# Altium integrated library NSC Interface.IntLib: 1288 symbols (part 10 of 45)
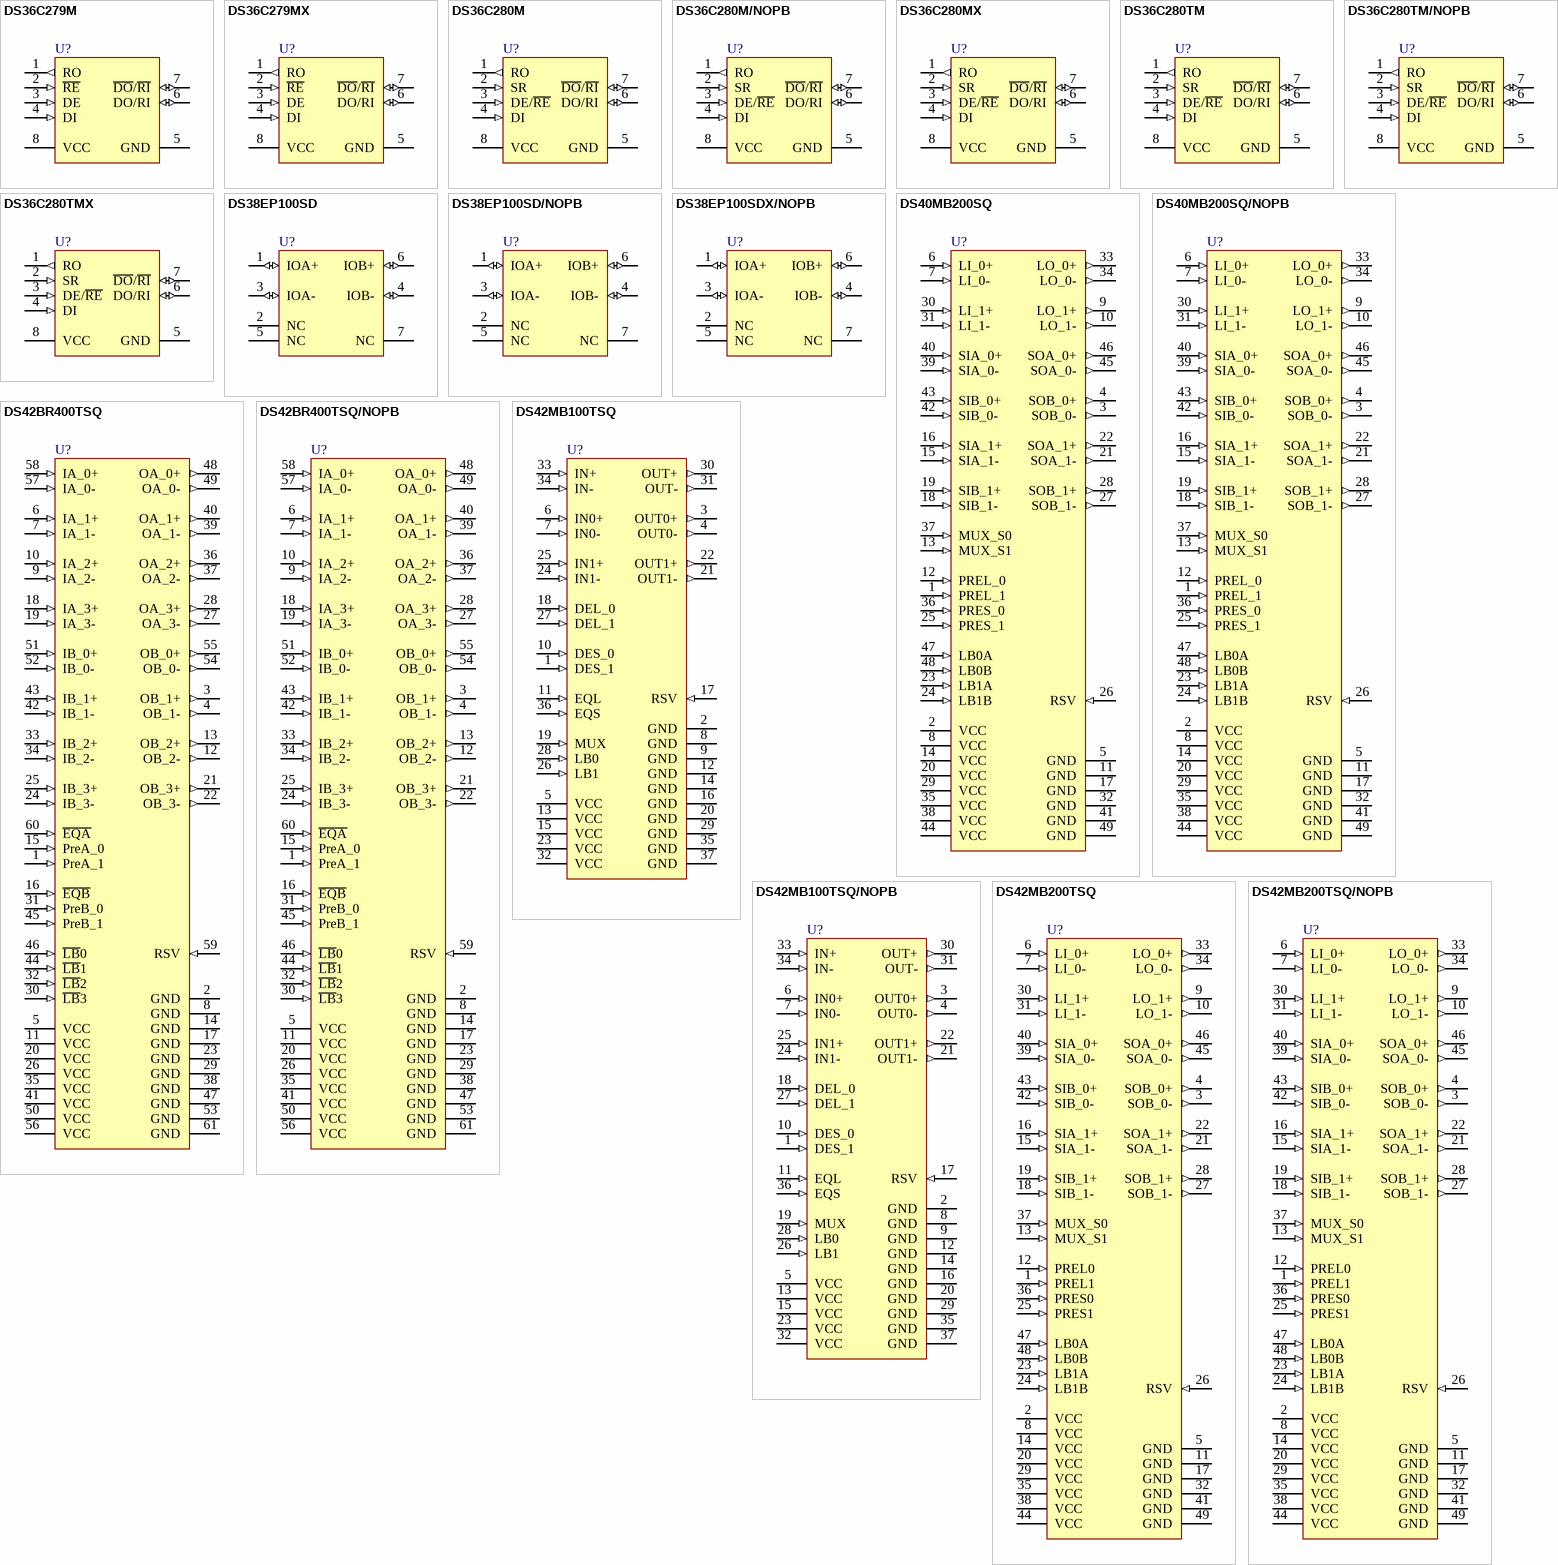
[diagram p121: symbols DS36C279M to DS42MB200TSQ/NOPB]

## DS36C279MX
designator U?
Low Power TIA/EIA-485 Transceiver with Sleep Mode, 8-pin Narrow SOIC; PartNumber: DS36C279MX; Manufacturer: National Semiconductor; PackageTopMarking: NSZXTT*36C27*9M; PowerWise: N; CompType: Interface IC; Published: 1-Mar-2010; DatasheetVersion: Jul-2000; PackageVersion: revM, May-2009; PackageReference: M08A; Publisher: Altium Limited; PackageDescription: SOIC Narrow, 4.9 x 3.9 x 1.45mm, 8 Lead, 1.27mm Pitch; RoHS: N; PinCount: 8; Code_JEDEC: MS-012-AA; Code_IPC: SOIC127P600-8; ComponentLink1Description: DS36C279 Datasheet; ComponentLink1URL: http://www.national.com/ds/DS/DS36C279.pdf; ComponentLink2Description: DS36C279 Web Page; ComponentLink2URL: http://www.national.com/pf/DS/DS36C279.html; ComponentLink3Description: M08A Package Page; ComponentLink3URL: http://www.national.com/packaging/folders/m08a.html
footprint M08A_N (SOIC, 8-Leads, Body 4.9x3.9mm, Pitch 1.27mm, IPC Medium Density)
footprint M08A_L (SOIC, 8-Leads, Body 4.9x3.9mm, Pitch 1.27mm, IPC High Density)
footprint M08A_M (SOIC, 8-Leads, Body 4.9x3.9mm, Pitch 1.27mm, IPC Low Density)
pins: 1 RO (out), 2 ~{RE} (in), 3 DE (in), 4 DI (in), 5 GND (power), 6 DO/RI (io), 7 ~{DO}/~{RI} (io), 8 VCC (power)

## DS36C280M
designator U?
Slew Rate Controlled CMOS TIA/EIA-485 Transceiver, 8-pin Narrow SOIC; PartNumber: DS36C280M; Manufacturer: National Semiconductor; PackageTopMarking: NSZXTT*36C28*0M; PowerWise: N; CompType: Interface IC; Published: 4-Dec-2008; DatasheetVersion: Jul-2000; PackageVersion: revM, May-2009; PackageReference: M08A; Publisher: Altium Limited; PackageDescription: SOIC Narrow, 4.9 x 3.9 x 1.45mm, 8 Lead, 1.27mm Pitch; RoHS: N; PinCount: 8; Code_JEDEC: MS-012-AA; Code_IPC: SOIC127P600-8; ComponentLink1Description: DS36C280 Datasheet; ComponentLink1URL: http://www.national.com/ds/DS/DS36C280.pdf; ComponentLink2Description: DS36C280 Web Page; ComponentLink2URL: http://www.national.com/pf/DS/DS36C280.html; ComponentLink3Description: M08A Package Page; ComponentLink3URL: http://www.national.com/packaging/folders/m08a.html
footprint M08A_N (SOIC, 8-Leads, Body 4.9x3.9mm, Pitch 1.27mm, IPC Medium Density)
footprint M08A_L (SOIC, 8-Leads, Body 4.9x3.9mm, Pitch 1.27mm, IPC High Density)
footprint M08A_M (SOIC, 8-Leads, Body 4.9x3.9mm, Pitch 1.27mm, IPC Low Density)
pins: 1 RO (out), 2 SR (in), 3 DE/~{RE} (in), 4 DI (in), 5 GND (power), 6 DO/RI (io), 7 ~{DO}/~{RI} (io), 8 VCC (power)

## DS36C280M/NOPB
designator U?
Slew Rate Controlled CMOS TIA/EIA-485 Transceiver, 8-pin Narrow SOIC, Pb-Free; PartNumber: DS36C280M/NOPB; Manufacturer: National Semiconductor; PackageTopMarking: NSZXTT*36C28*0M; PowerWise: N; CompType: Interface IC; Published: 1-Mar-2010; DatasheetVersion: Jul-2000; PackageVersion: revM, May-2009; PackageReference: M08A; Publisher: Altium Limited; PackageDescription: SOIC Narrow, 4.9 x 3.9 x 1.45mm, 8 Lead, 1.27mm Pitch; Supplier 1: Digi-Key; Supplier Part Number 1: DS36C280M-ND; RoHS: Y; PinCount: 8; Code_JEDEC: MS-012-AA; Code_IPC: SOIC127P600-8; ComponentLink1Description: DS36C280 Datasheet; ComponentLink1URL: http://www.national.com/ds/DS/DS36C280.pdf; ComponentLink2Description: DS36C280 Web Page; ComponentLink2URL: http://www.national.com/pf/DS/DS36C280.html; ComponentLink3Description: M08A Package Page; ComponentLink3URL: http://www.national.com/packaging/folders/m08a.html
footprint M08A_N (SOIC, 8-Leads, Body 4.9x3.9mm, Pitch 1.27mm, IPC Medium Density)
footprint M08A_L (SOIC, 8-Leads, Body 4.9x3.9mm, Pitch 1.27mm, IPC High Density)
footprint M08A_M (SOIC, 8-Leads, Body 4.9x3.9mm, Pitch 1.27mm, IPC Low Density)
pins: 1 RO (out), 2 SR (in), 3 DE/~{RE} (in), 4 DI (in), 5 GND (power), 6 DO/RI (io), 7 ~{DO}/~{RI} (io), 8 VCC (power)

## DS36C280MX
designator U?
Slew Rate Controlled CMOS TIA/EIA-485 Transceiver, 8-pin Narrow SOIC; PartNumber: DS36C280MX; Manufacturer: National Semiconductor; PackageTopMarking: NSZXTT*36C28*0M; PowerWise: N; CompType: Interface IC; Published: 1-Mar-2010; DatasheetVersion: Jul-2000; PackageVersion: revM, May-2009; PackageReference: M08A; Publisher: Altium Limited; PackageDescription: SOIC Narrow, 4.9 x 3.9 x 1.45mm, 8 Lead, 1.27mm Pitch; RoHS: N; PinCount: 8; Code_JEDEC: MS-012-AA; Code_IPC: SOIC127P600-8; ComponentLink1Description: DS36C280 Datasheet; ComponentLink1URL: http://www.national.com/ds/DS/DS36C280.pdf; ComponentLink2Description: DS36C280 Web Page; ComponentLink2URL: http://www.national.com/pf/DS/DS36C280.html; ComponentLink3Description: M08A Package Page; ComponentLink3URL: http://www.national.com/packaging/folders/m08a.html
footprint M08A_N (SOIC, 8-Leads, Body 4.9x3.9mm, Pitch 1.27mm, IPC Medium Density)
footprint M08A_L (SOIC, 8-Leads, Body 4.9x3.9mm, Pitch 1.27mm, IPC High Density)
footprint M08A_M (SOIC, 8-Leads, Body 4.9x3.9mm, Pitch 1.27mm, IPC Low Density)
pins: 1 RO (out), 2 SR (in), 3 DE/~{RE} (in), 4 DI (in), 5 GND (power), 6 DO/RI (io), 7 ~{DO}/~{RI} (io), 8 VCC (power)

## DS36C280TM
designator U?
Slew Rate Controlled CMOS EIA-RS-485 Transceiver, 8-pin Narrow SOIC; PartNumber: DS36C280TM; Manufacturer: National Semiconductor; PackageTopMarking: NSZXTT*36C28*0TM; PowerWise: N; CompType: Interface IC; Published: 4-Dec-2008; DatasheetVersion: Jul-2000; PackageVersion: revM, May-2009; PackageReference: M08A; Publisher: Altium Limited; PackageDescription: SOIC Narrow, 4.9 x 3.9 x 1.45mm, 8 Lead, 1.27mm Pitch; Supplier 1: Farnell; Supplier Part Number 1: 1215198; RoHS: N; PinCount: 8; Code_JEDEC: MS-012-AA; Code_IPC: SOIC127P600-8; ComponentLink1Description: DS36C280 Datasheet; ComponentLink1URL: http://www.national.com/ds/DS/DS36C280.pdf; ComponentLink2Description: DS36C280 Web Page; ComponentLink2URL: http://www.national.com/pf/DS/DS36C280.html; ComponentLink3Description: M08A Package Page; ComponentLink3URL: http://www.national.com/packaging/folders/m08a.html
footprint M08A_N (SOIC, 8-Leads, Body 4.9x3.9mm, Pitch 1.27mm, IPC Medium Density)
footprint M08A_L (SOIC, 8-Leads, Body 4.9x3.9mm, Pitch 1.27mm, IPC High Density)
footprint M08A_M (SOIC, 8-Leads, Body 4.9x3.9mm, Pitch 1.27mm, IPC Low Density)
pins: 1 RO (out), 2 SR (in), 3 DE/~{RE} (in), 4 DI (in), 5 GND (power), 6 DO/RI (io), 7 ~{DO}/~{RI} (io), 8 VCC (power)

## DS36C280TM/NOPB
designator U?
Slew Rate Controlled CMOS TIA/EIA-485 Transceiver, 8-pin Narrow SOIC, Pb-Free; PartNumber: DS36C280TM/NOPB; Manufacturer: National Semiconductor; PackageTopMarking: NSZXTT*36C28*0TM; PowerWise: N; CompType: Interface IC; Published: 1-Mar-2010; DatasheetVersion: Jul-2000; PackageVersion: revM, May-2009; PackageReference: M08A; Publisher: Altium Limited; PackageDescription: SOIC Narrow, 4.9 x 3.9 x 1.45mm, 8 Lead, 1.27mm Pitch; Supplier 1: Digi-Key; Supplier Part Number 1: DS36C280TM/NOPB-ND; RoHS: Y; PinCount: 8; Code_JEDEC: MS-012-AA; Code_IPC: SOIC127P600-8; ComponentLink1Description: DS36C280 Datasheet; ComponentLink1URL: http://www.national.com/ds/DS/DS36C280.pdf; ComponentLink2Description: DS36C280 Web Page; ComponentLink2URL: http://www.national.com/pf/DS/DS36C280.html; ComponentLink3Description: M08A Package Page; ComponentLink3URL: http://www.national.com/packaging/folders/m08a.html
footprint M08A_N (SOIC, 8-Leads, Body 4.9x3.9mm, Pitch 1.27mm, IPC Medium Density)
footprint M08A_L (SOIC, 8-Leads, Body 4.9x3.9mm, Pitch 1.27mm, IPC High Density)
footprint M08A_M (SOIC, 8-Leads, Body 4.9x3.9mm, Pitch 1.27mm, IPC Low Density)
pins: 1 RO (out), 2 SR (in), 3 DE/~{RE} (in), 4 DI (in), 5 GND (power), 6 DO/RI (io), 7 ~{DO}/~{RI} (io), 8 VCC (power)

## DS36C280TMX
designator U?
Slew Rate Controlled CMOS TIA/EIA-485 Transceiver, 8-pin Narrow SOIC; PartNumber: DS36C280TMX; Manufacturer: National Semiconductor; PackageTopMarking: NSZXTT*36C28*0TM; PowerWise: N; CompType: Interface IC; Published: 1-Mar-2010; DatasheetVersion: Jul-2000; PackageVersion: revM, May-2009; PackageReference: M08A; Publisher: Altium Limited; PackageDescription: SOIC Narrow, 4.9 x 3.9 x 1.45mm, 8 Lead, 1.27mm Pitch; RoHS: N; PinCount: 8; Code_JEDEC: MS-012-AA; Code_IPC: SOIC127P600-8; ComponentLink1Description: DS36C280 Datasheet; ComponentLink1URL: http://www.national.com/ds/DS/DS36C280.pdf; ComponentLink2Description: DS36C280 Web Page; ComponentLink2URL: http://www.national.com/pf/DS/DS36C280.html; ComponentLink3Description: M08A Package Page; ComponentLink3URL: http://www.national.com/packaging/folders/m08a.html
footprint M08A_N (SOIC, 8-Leads, Body 4.9x3.9mm, Pitch 1.27mm, IPC Medium Density)
footprint M08A_L (SOIC, 8-Leads, Body 4.9x3.9mm, Pitch 1.27mm, IPC High Density)
footprint M08A_M (SOIC, 8-Leads, Body 4.9x3.9mm, Pitch 1.27mm, IPC Low Density)
pins: 1 RO (out), 2 SR (in), 3 DE/~{RE} (in), 4 DI (in), 5 GND (power), 6 DO/RI (io), 7 ~{DO}/~{RI} (io), 8 VCC (power)

## DS38EP100SD
designator U?
1 to 5 Gbps, Power-Saver Equalizer for Backplanes and Cables, 6-pin LLP; PartNumber: DS38EP100SD; Manufacturer: National Semiconductor; PackageTopMarking: XTT*38S; PowerWise: Y; CompType: Interface IC; Published: 4-Dec-2008; DatasheetVersion: Jul-2007; PackageVersion: revA, Nov-2003; PackageReference: SDB06A; Publisher: Altium Limited; PackageDescription: LLP, Plastic, Dual, 2.2 x 2.5 x 0.8mm Body, 6 Lead, 0.65mm Pitch, No Pullback; RoHS: Y; PinCount: 6; ComponentLink1Description: DS38EP100 Datasheet; ComponentLink1URL: http://www.national.com/ds/DS/DS38EP100.pdf; ComponentLink2Description: DS38EP100 Web Page; ComponentLink2URL: http://www.national.com/pf/DS/DS38EP100.html; ComponentLink3Description: SDB06A Package Page; ComponentLink3URL: http://www.national.com/packaging/folders/sdb06a.html
footprint SDB06A (SON, 6-Leads, Body 2.2x2.5mm, Pitch 0.65mm, NSC Recommended (SC-70 Land))
pins: 1 IOA+ (io), 2 NC, 3 IOA- (io), 4 IOB- (io), 5 NC, 6 IOB+ (io), 7 NC

## DS38EP100SD/NOPB
designator U?
1 to 5 Gbps, Power-Saver Equalizer for Backplanes and Cables, 6-pin LLP, Pb-Free; PartNumber: DS38EP100SD/NOPB; Manufacturer: National Semiconductor; PackageTopMarking: XTT*38S; PowerWise: Y; CompType: Interface IC; Published: 1-Mar-2010; DatasheetVersion: Jul-2007; PackageVersion: revA, Nov-2003; PackageReference: SDB06A; Publisher: Altium Limited; PackageDescription: LLP, Plastic, Dual, 2.2 x 2.5 x 0.8mm Body, 6 Lead, 0.65mm Pitch, No Pullback; Supplier 1: Digi-Key; Supplier Part Number 1: DS38EP100SDTR-ND; Supplier 2: Digi-Key; Supplier Part Number 2: DS38EP100SDCT-ND; Supplier 3: Digi-Key; Supplier Part Number 3: DS38EP100SDDKR-ND; RoHS: Y; PinCount: 6; ComponentLink1Description: DS38EP100 Datasheet; ComponentLink1URL: http://www.national.com/ds/DS/DS38EP100.pdf; ComponentLink2Description: DS38EP100 Web Page; ComponentLink2URL: http://www.national.com/pf/DS/DS38EP100.html; ComponentLink3Description: SDB06A Package Page; ComponentLink3URL: http://www.national.com/packaging/folders/sdb06a.html
footprint SDB06A (SON, 6-Leads, Body 2.2x2.5mm, Pitch 0.65mm, NSC Recommended (SC-70 Land))
pins: 1 IOA+ (io), 2 NC, 3 IOA- (io), 4 IOB- (io), 5 NC, 6 IOB+ (io), 7 NC

## DS38EP100SDX/NOPB
designator U?
1 to 5 Gbps, Power-Saver Equalizer for Backplanes and Cables, 6-pin LLP, Pb-Free; PartNumber: DS38EP100SDX/NOPB; Manufacturer: National Semiconductor; PackageTopMarking: XTT*38S; PowerWise: Y; CompType: Interface IC; Published: 1-Mar-2010; DatasheetVersion: Jul-2007; PackageVersion: revA, Nov-2003; PackageReference: SDB06A; Publisher: Altium Limited; PackageDescription: LLP, Plastic, Dual, 2.2 x 2.5 x 0.8mm Body, 6 Lead, 0.65mm Pitch, No Pullback; Supplier 1: Digi-Key; Supplier Part Number 1: DS38EP100SDX-ND; RoHS: Y; PinCount: 6; ComponentLink1Description: DS38EP100 Datasheet; ComponentLink1URL: http://www.national.com/ds/DS/DS38EP100.pdf; ComponentLink2Description: DS38EP100 Web Page; ComponentLink2URL: http://www.national.com/pf/DS/DS38EP100.html; ComponentLink3Description: SDB06A Package Page; ComponentLink3URL: http://www.national.com/packaging/folders/sdb06a.html
footprint SDB06A (SON, 6-Leads, Body 2.2x2.5mm, Pitch 0.65mm, NSC Recommended (SC-70 Land))
pins: 1 IOA+ (io), 2 NC, 3 IOA- (io), 4 IOB- (io), 5 NC, 6 IOB+ (io), 7 NC

## DS40MB200SQ
designator U?
Dual 4.0 Gbps 2:1/1:2 CML Mux/Buffer with Transmit Pre-Emphasis and Receive Equalization, 48-pin LLP; PartNumber: DS40MB200SQ; Manufacturer: National Semiconductor; PackageTopMarking: NS*UZXYTTE#*40MB200; PowerWise: N; CompType: Interface IC; Published: 4-Dec-2008; DatasheetVersion: Feb-2009; PackageVersion: revA, Jul-2004; PackageReference: SQA48D; Publisher: Altium Limited; PackageDescription: LLP, Quad, 7 x 7 x 0.8mm, 48 Lead, 0.5mm Pitch, 4.1 x 4.1 Exposed Pad; RoHS: N; PinCount: 48; ComponentLink1Description: DS40MB200 Datasheet; ComponentLink1URL: http://www.national.com/ds/DS/DS40MB200.pdf; ComponentLink2Description: DS40MB200 Web Page; ComponentLink2URL: http://www.national.com/pf/DS/DS40MB200.html; ComponentLink3Description: SQA48D Package Page; ComponentLink3URL: http://www.national.com/packaging/folders/sqa48d.html
footprint SQA48D (QFN, 48-Leads, Body 7x7mm, Pitch 0.5mm, NSC Recommended)
pins: 1 PREL_1 (in), 2 VCC (power), 3 SOB_0- (out), 4 SOB_0+ (out), 5 GND (power), 6 LI_0+ (in), 7 LI_0- (in), 8 VCC (power), 9 LO_1+ (out), 10 LO_1- (out), 11 GND (power), 12 PREL_0 (in), 13 MUX_S1 (in), 14 VCC (power), 15 SIA_1- (in), 16 SIA_1+ (in), 17 GND (power), 18 SIB_1- (in), 19 SIB_1+ (in), 20 VCC (power), 21 SOA_1- (out), 22 SOA_1+ (out), 23 LB1A (in), 24 LB1B (in), 25 PRES_1 (in), 26 RSV (in), 27 SOB_1- (out), 28 SOB_1+ (out), 29 VCC (power), 30 LI_1+ (in), 31 LI_1- (in), 32 GND (power), 33 LO_0+ (out), 34 LO_0- (out), 35 VCC (power), 36 PRES_0 (in), 37 MUX_S0 (in), 38 VCC (power), 39 SIA_0- (in), 40 SIA_0+ (in), 41 GND (power), 42 SIB_0- (in), 43 SIB_0+ (in), 44 VCC (power), 45 SOA_0- (out), 46 SOA_0+ (out), 47 LB0A (in), 48 LB0B (in), 49 GND (power)

## DS40MB200SQ/NOPB
designator U?
Dual 4.0 Gbps 2:1/1:2 CML Mux/Buffer with Transmit Pre-Emphasis and Receive Equalization, 48-pin LLP, Pb-Free; PartNumber: DS40MB200SQ/NOPB; Manufacturer: National Semiconductor; PackageTopMarking: NS*UZXYTTE#*40MB200; PowerWise: N; CompType: Interface IC; Published: 1-Mar-2010; DatasheetVersion: Feb-2009; PackageVersion: revA, Jul-2004; PackageReference: SQA48D; Publisher: Altium Limited; PackageDescription: LLP, Quad, 7 x 7 x 0.8mm, 48 Lead, 0.5mm Pitch, 4.1 x 4.1 Exposed Pad; Supplier 1: Digi-Key; Supplier Part Number 1: DS40MB200SQTR-ND; Supplier 2: Digi-Key; Supplier Part Number 2: DS40MB200SQCT-ND; Supplier 3: Digi-Key; Supplier Part Number 3: DS40MB200SQDKR-ND; RoHS: Y; PinCount: 48; ComponentLink1Description: DS40MB200 Datasheet; ComponentLink1URL: http://www.national.com/ds/DS/DS40MB200.pdf; ComponentLink2Description: DS40MB200 Web Page; ComponentLink2URL: http://www.national.com/pf/DS/DS40MB200.html; ComponentLink3Description: SQA48D Package Page; ComponentLink3URL: http://www.national.com/packaging/folders/sqa48d.html
footprint SQA48D (QFN, 48-Leads, Body 7x7mm, Pitch 0.5mm, NSC Recommended)
pins: 1 PREL_1 (in), 2 VCC (power), 3 SOB_0- (out), 4 SOB_0+ (out), 5 GND (power), 6 LI_0+ (in), 7 LI_0- (in), 8 VCC (power), 9 LO_1+ (out), 10 LO_1- (out), 11 GND (power), 12 PREL_0 (in), 13 MUX_S1 (in), 14 VCC (power), 15 SIA_1- (in), 16 SIA_1+ (in), 17 GND (power), 18 SIB_1- (in), 19 SIB_1+ (in), 20 VCC (power), 21 SOA_1- (out), 22 SOA_1+ (out), 23 LB1A (in), 24 LB1B (in), 25 PRES_1 (in), 26 RSV (in), 27 SOB_1- (out), 28 SOB_1+ (out), 29 VCC (power), 30 LI_1+ (in), 31 LI_1- (in), 32 GND (power), 33 LO_0+ (out), 34 LO_0- (out), 35 VCC (power), 36 PRES_0 (in), 37 MUX_S0 (in), 38 VCC (power), 39 SIA_0- (in), 40 SIA_0+ (in), 41 GND (power), 42 SIB_0- (in), 43 SIB_0+ (in), 44 VCC (power), 45 SOA_0- (out), 46 SOA_0+ (out), 47 LB0A (in), 48 LB0B (in), 49 GND (power)

## DS42BR400TSQ
designator U?
Quad 4.25 Gbps CML Transceiver with Transmit De-Emphasis and Receive Equalization, 60-pin LLP; PartNumber: DS42BR400TSQ; Manufacturer: National Semiconductor; PackageTopMarking: NS*UZXYTT*DS42BR400*TSQ; PowerWise: Y; CompType: Interface IC; Published: 4-Dec-2008; DatasheetVersion: Mar-2009; PackageVersion: revA, Jun-2005; PackageReference: SQA60A; Publisher: Altium Limited; PackageDescription: LLP, Quad, 9 x 9 x 0.8mm, 60 Lead, 0.5mm Pitch, No Pullback; RoHS: N; PinCount: 60; ComponentLink1Description: DS42BR400 Datasheet; ComponentLink1URL: http://www.national.com/ds/DS/DS42BR400.pdf; ComponentLink2Description: DS42BR400 Web Page; ComponentLink2URL: http://www.national.com/pf/DS/DS42BR400.html; ComponentLink3Description: SQA60A Package Page; ComponentLink3URL: http://www.national.com/packaging/folders/sqa60a.html
footprint SQA60A (QFN, 60-Leads, Body 9x9mm, Pitch 0.5mm, NSC Recommended)
pins: 1 PreA_1 (in), 2 GND (power), 3 OB_1+ (out), 4 OB_1- (out), 5 VCC (power), 6 IA_1+ (in), 7 IA_1- (in), 8 GND (power), 9 IA_2- (in), 10 IA_2+ (in), 11 VCC (power), 12 OB_2- (out), 13 OB_2+ (out), 14 GND (power), 15 PreA_0 (in), 16 ~{EQB} (in), 17 GND (power), 18 IA_3+ (in), 19 IA_3- (in), 20 VCC (power), 21 OB_3+ (out), 22 OB_3- (out), 23 GND (power), 24 IB_3- (in), 25 IB_3+ (in), 26 VCC (power), 27 OA_3- (out), 28 OA_3+ (out), 29 GND (power), 30 ~{LB}3 (in), 31 PreB_0 (in), 32 ~{LB}2 (in), 33 IB_2+ (in), 34 IB_2- (in), 35 VCC (power), 36 OA_2+ (out), 37 OA_2- (out), 38 GND (power), 39 OA_1- (out), 40 OA_1+ (out), 41 VCC (power), 42 IB_1- (in), 43 IB_1+ (in), 44 ~{LB}1 (in), 45 PreB_1 (in), 46 ~{LB}0 (in), 47 GND (power), 48 OA_0+ (out), 49 OA_0- (out), 50 VCC (power), 51 IB_0+ (in), 52 IB_0- (in), 53 GND (power), 54 OB_0- (out), 55 OB_0+ (out), 56 VCC (power), 57 IA_0- (in), 58 IA_0+ (in), 59 RSV (in), 60 ~{EQA} (in), 61 GND (power)

## DS42BR400TSQ/NOPB
designator U?
Quad 4.25 Gbps CML Transceiver with Transmit De-Emphasis and Receive Equalization, 60-pin LLP, Pb-Free; PartNumber: DS42BR400TSQ/NOPB; Manufacturer: National Semiconductor; PackageTopMarking: NS*UZXYTTE#*DS42BR400*TSQ; PowerWise: Y; CompType: Interface IC; Published: 1-Mar-2010; DatasheetVersion: Mar-2009; PackageVersion: revA, Jun-2005; PackageReference: SQA60A; Publisher: Altium Limited; PackageDescription: LLP, Quad, 9 x 9 x 0.8mm, 60 Lead, 0.5mm Pitch, No Pullback; Supplier 1: Digi-Key; Supplier Part Number 1: DS42BR400TSQTR-ND; Supplier 2: Digi-Key; Supplier Part Number 2: DS42BR400TSQCT-ND; Supplier 3: Digi-Key; Supplier Part Number 3: DS42BR400TSQDKR-ND; RoHS: Y; PinCount: 60; ComponentLink1Description: DS42BR400 Datasheet; ComponentLink1URL: http://www.national.com/ds/DS/DS42BR400.pdf; ComponentLink2Description: DS42BR400 Web Page; ComponentLink2URL: http://www.national.com/pf/DS/DS42BR400.html; ComponentLink3Description: SQA60A Package Page; ComponentLink3URL: http://www.national.com/packaging/folders/sqa60a.html
footprint SQA60A (QFN, 60-Leads, Body 9x9mm, Pitch 0.5mm, NSC Recommended)
pins: 1 PreA_1 (in), 2 GND (power), 3 OB_1+ (out), 4 OB_1- (out), 5 VCC (power), 6 IA_1+ (in), 7 IA_1- (in), 8 GND (power), 9 IA_2- (in), 10 IA_2+ (in), 11 VCC (power), 12 OB_2- (out), 13 OB_2+ (out), 14 GND (power), 15 PreA_0 (in), 16 ~{EQB} (in), 17 GND (power), 18 IA_3+ (in), 19 IA_3- (in), 20 VCC (power), 21 OB_3+ (out), 22 OB_3- (out), 23 GND (power), 24 IB_3- (in), 25 IB_3+ (in), 26 VCC (power), 27 OA_3- (out), 28 OA_3+ (out), 29 GND (power), 30 ~{LB}3 (in), 31 PreB_0 (in), 32 ~{LB}2 (in), 33 IB_2+ (in), 34 IB_2- (in), 35 VCC (power), 36 OA_2+ (out), 37 OA_2- (out), 38 GND (power), 39 OA_1- (out), 40 OA_1+ (out), 41 VCC (power), 42 IB_1- (in), 43 IB_1+ (in), 44 ~{LB}1 (in), 45 PreB_1 (in), 46 ~{LB}0 (in), 47 GND (power), 48 OA_0+ (out), 49 OA_0- (out), 50 VCC (power), 51 IB_0+ (in), 52 IB_0- (in), 53 GND (power), 54 OB_0- (out), 55 OB_0+ (out), 56 VCC (power), 57 IA_0- (in), 58 IA_0+ (in), 59 RSV (in), 60 ~{EQA} (in), 61 GND (power)

## DS42MB100TSQ
designator U?
4.25 Gbps 2:1/1:2 CML Mux/Buffer with Transmit De-Emphasis and Receive Equalization, 36-pin LLP; PartNumber: DS42MB100TSQ; Manufacturer: National Semiconductor; PackageTopMarking: NS*UZXYTT*42MB100; PowerWise: N; CompType: Interface IC; Published: 4-Dec-2008; DatasheetVersion: Mar-2009; PackageVersion: revA, Jun-2003; PackageReference: SQA36A; Publisher: Altium Limited; PackageDescription: LLP, Plastic, Quad, 6 x 6 x 0.8mm Body, 36 Lead, 0.5mm Pitch, No Pullback; RoHS: Y; PinCount: 36; ComponentLink1Description: DS42MB100 Datasheet; ComponentLink1URL: http://www.national.com/ds/DS/DS42MB100.pdf; ComponentLink2Description: DS42MB100 Web Page; ComponentLink2URL: http://www.national.com/pf/DS/DS42MB100.html; ComponentLink3Description: SQA36A Package Page; ComponentLink3URL: http://www.national.com/packaging/folders/sqa36a.html
footprint SQA36A (QFN, 36-Leads, Body 6x6mm, Pitch 0.5mm, NSC Recommended)
pins: 1 DES_1 (in), 2 GND (power), 3 OUT0+ (out), 4 OUT0- (out), 5 VCC (power), 6 IN0+ (in), 7 IN0- (in), 8 GND (power), 9 GND (power), 10 DES_0 (in), 11 EQL (in), 12 GND (power), 13 VCC (power), 14 GND (power), 15 VCC (power), 16 GND (power), 17 RSV (in), 18 DEL_0 (in), 19 MUX (in), 20 GND (power), 21 OUT1- (out), 22 OUT1+ (out), 23 VCC (power), 24 IN1- (in), 25 IN1+ (in), 26 LB1 (in), 27 DEL_1 (in), 28 LB0 (in), 29 GND (power), 30 OUT+ (out), 31 OUT- (out), 32 VCC (power), 33 IN+ (in), 34 IN- (in), 35 GND (power), 36 EQS (in), 37 GND (power)

## DS42MB100TSQ/NOPB
designator U?
4.25 Gbps 2:1/1:2 CML Mux/Buffer with Transmit Pre-Emphasis and Receive Equalization, 36-pin LLP, Pb-Free; PartNumber: DS42MB100TSQ/NOPB; Manufacturer: National Semiconductor; PackageTopMarking: NS*UZXYTTE#*42MB100; PowerWise: N; CompType: Interface IC; Published: 1-Mar-2010; DatasheetVersion: Mar-2009; PackageVersion: revA, Jun-2003; PackageReference: SQA36A; Publisher: Altium Limited; PackageDescription: LLP, Plastic, Quad, 6 x 6 x 0.8mm Body, 36 Lead, 0.5mm Pitch, No Pullback; Supplier 1: Digi-Key; Supplier Part Number 1: DS42MB100TSQTR-ND; Supplier 2: Digi-Key; Supplier Part Number 2: DS42MB100TSQCT-ND; Supplier 3: Digi-Key; Supplier Part Number 3: DS42MB100TSQDKR-ND; RoHS: Y; PinCount: 36; ComponentLink1Description: DS42MB100 Datasheet; ComponentLink1URL: http://www.national.com/ds/DS/DS42MB100.pdf; ComponentLink2Description: DS42MB100 Web Page; ComponentLink2URL: http://www.national.com/pf/DS/DS42MB100.html; ComponentLink3Description: SQA36A Package Page; ComponentLink3URL: http://www.national.com/packaging/folders/sqa36a.html
footprint SQA36A (QFN, 36-Leads, Body 6x6mm, Pitch 0.5mm, NSC Recommended)
pins: 1 DES_1 (in), 2 GND (power), 3 OUT0+ (out), 4 OUT0- (out), 5 VCC (power), 6 IN0+ (in), 7 IN0- (in), 8 GND (power), 9 GND (power), 10 DES_0 (in), 11 EQL (in), 12 GND (power), 13 VCC (power), 14 GND (power), 15 VCC (power), 16 GND (power), 17 RSV (in), 18 DEL_0 (in), 19 MUX (in), 20 GND (power), 21 OUT1- (out), 22 OUT1+ (out), 23 VCC (power), 24 IN1- (in), 25 IN1+ (in), 26 LB1 (in), 27 DEL_1 (in), 28 LB0 (in), 29 GND (power), 30 OUT+ (out), 31 OUT- (out), 32 VCC (power), 33 IN+ (in), 34 IN- (in), 35 GND (power), 36 EQS (in), 37 GND (power)

## DS42MB200TSQ
designator U?
Dual 4.25 Gbps 2:1/1:2 CML Mux/Buffer with Transmit Pre-Emphasis and Receive Equalization, 48-pin LLP; PartNumber: DS42MB200TSQ; Manufacturer: National Semiconductor; PackageTopMarking: NS*UZXYTT*42MB200; PowerWise: N; CompType: Interface IC; Published: 4-Dec-2008; DatasheetVersion: Mar-2009; PackageVersion: revA, Jul-2004; PackageReference: SQA48D; Publisher: Altium Limited; PackageDescription: LLP, Quad, 7 x 7 x 0.8mm, 48 Lead, 0.5mm Pitch, 4.1 x 4.1 Exposed Pad; RoHS: Y; PinCount: 48; ComponentLink1Description: DS42MB200 Datasheet; ComponentLink1URL: http://www.national.com/ds/DS/DS42MB200.pdf; ComponentLink2Description: DS42MB200 Web Page; ComponentLink2URL: http://www.national.com/pf/DS/DS42MB200.html; ComponentLink3Description: SQA48D Package Page; ComponentLink3URL: http://www.national.com/packaging/folders/sqa48d.html
footprint SQA48D (QFN, 48-Leads, Body 7x7mm, Pitch 0.5mm, NSC Recommended)
pins: 1 PREL1 (in), 2 VCC (power), 3 SOB_0- (out), 4 SOB_0+ (out), 5 GND (power), 6 LI_0+ (in), 7 LI_0- (in), 8 VCC (power), 9 LO_1+ (out), 10 LO_1- (out), 11 GND (power), 12 PREL0 (in), 13 MUX_S1 (in), 14 VCC (power), 15 SIA_1- (in), 16 SIA_1+ (in), 17 GND (power), 18 SIB_1- (in), 19 SIB_1+ (in), 20 VCC (power), 21 SOA_1- (out), 22 SOA_1+ (out), 23 LB1A (in), 24 LB1B (in), 25 PRES1 (in), 26 RSV (in), 27 SOB_1- (out), 28 SOB_1+ (out), 29 VCC (power), 30 LI_1+ (in), 31 LI_1- (in), 32 GND (power), 33 LO_0+ (out), 34 LO_0- (out), 35 VCC (power), 36 PRES0 (in), 37 MUX_S0 (in), 38 VCC (power), 39 SIA_0- (in), 40 SIA_0+ (in), 41 GND (power), 42 SIB_0- (in), 43 SIB_0+ (in), 44 VCC (power), 45 SOA_0- (out), 46 SOA_0+ (out), 47 LB0A (in), 48 LB0B (in), 49 GND (power)

## DS42MB200TSQ/NOPB
designator U?
Dual 4.25 Gbps 2:1/1:2 CML Mux/Buffer with Transmit Pre-Emphasis and Receive Equalization, 48-pin LLP, Pb-Free; PartNumber: DS42MB200TSQ/NOPB; Manufacturer: National Semiconductor; PackageTopMarking: NS*UZXYTTE#*42MB200; PowerWise: N; CompType: Interface IC; Published: 1-Mar-2010; DatasheetVersion: Mar-2009; PackageVersion: revA, Jul-2004; PackageReference: SQA48D; Publisher: Altium Limited; PackageDescription: LLP, Quad, 7 x 7 x 0.8mm, 48 Lead, 0.5mm Pitch, 4.1 x 4.1 Exposed Pad; Supplier 1: Digi-Key; Supplier Part Number 1: DS42MB200TSQTR-ND; Supplier 2: Digi-Key; Supplier Part Number 2: DS42MB200TSQCT-ND; Supplier 3: Digi-Key; Supplier Part Number 3: DS42MB200TSQDKR-ND; RoHS: Y; PinCount: 48; ComponentLink1Description: DS42MB200 Datasheet; ComponentLink1URL: http://www.national.com/ds/DS/DS42MB200.pdf; ComponentLink2Description: DS42MB200 Web Page; ComponentLink2URL: http://www.national.com/pf/DS/DS42MB200.html; ComponentLink3Description: SQA48D Package Page; ComponentLink3URL: http://www.national.com/packaging/folders/sqa48d.html
footprint SQA48D (QFN, 48-Leads, Body 7x7mm, Pitch 0.5mm, NSC Recommended)
pins: 1 PREL1 (in), 2 VCC (power), 3 SOB_0- (out), 4 SOB_0+ (out), 5 GND (power), 6 LI_0+ (in), 7 LI_0- (in), 8 VCC (power), 9 LO_1+ (out), 10 LO_1- (out), 11 GND (power), 12 PREL0 (in), 13 MUX_S1 (in), 14 VCC (power), 15 SIA_1- (in), 16 SIA_1+ (in), 17 GND (power), 18 SIB_1- (in), 19 SIB_1+ (in), 20 VCC (power), 21 SOA_1- (out), 22 SOA_1+ (out), 23 LB1A (in), 24 LB1B (in), 25 PRES1 (in), 26 RSV (in), 27 SOB_1- (out), 28 SOB_1+ (out), 29 VCC (power), 30 LI_1+ (in), 31 LI_1- (in), 32 GND (power), 33 LO_0+ (out), 34 LO_0- (out), 35 VCC (power), 36 PRES0 (in), 37 MUX_S0 (in), 38 VCC (power), 39 SIA_0- (in), 40 SIA_0+ (in), 41 GND (power), 42 SIB_0- (in), 43 SIB_0+ (in), 44 VCC (power), 45 SOA_0- (out), 46 SOA_0+ (out), 47 LB0A (in), 48 LB0B (in), 49 GND (power)

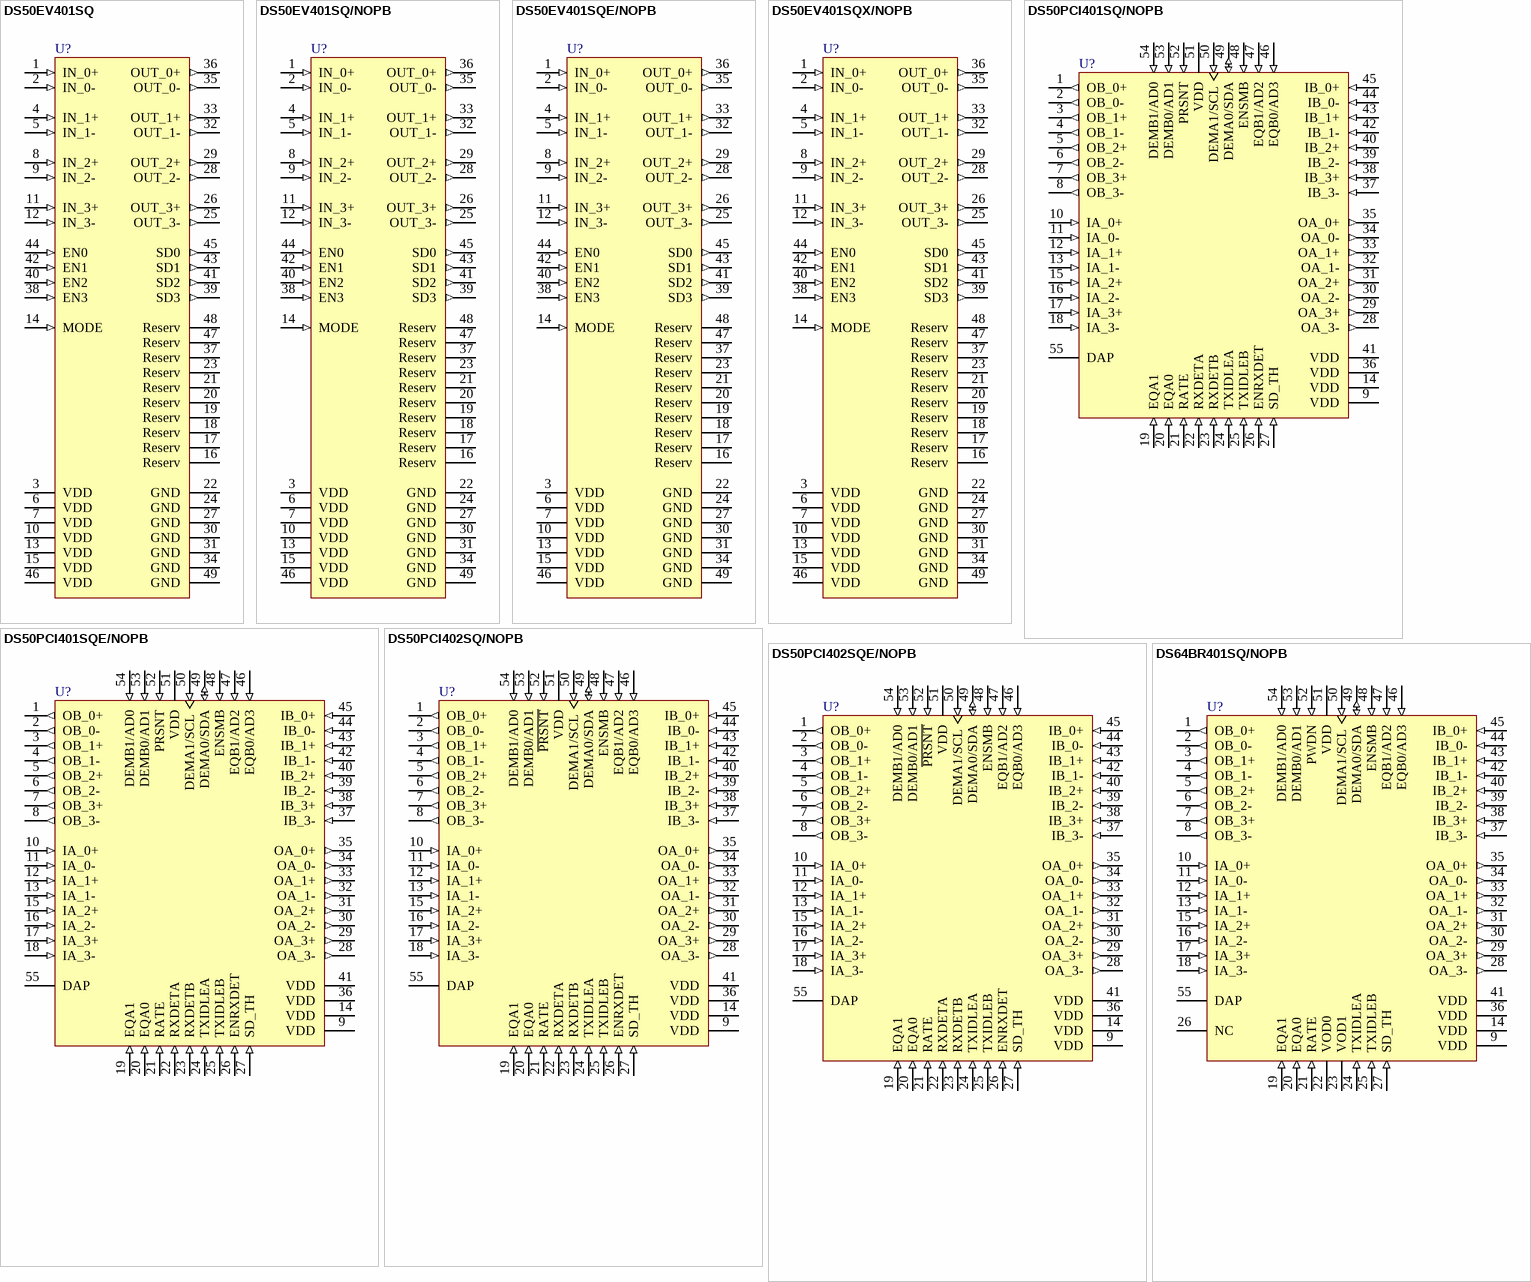
[diagram p24: symbols DS50EV401SQ to DS64BR401SQ/NOPB]

## DS50EV401SQ
designator U?
2.5 Gbps / 5.0 Gbps / 8.0 Gbps Quad PCI Express Cable and Backplane Equalizer, 48-pin LLP; PartNumber: DS50EV401SQ; Manufacturer: National Semiconductor; PackageTopMarking: NS*UZXYTT*DS50EV401; PowerWise: N; CompType: Interface IC; Published: 4-Dec-2008; DatasheetVersion: Jul-2008; PackageVersion: revB, May-2009; PackageReference: SQA48A; Publisher: Altium Limited; PackageDescription: LLP, Plastic, Quad, 7 x 7 x 0.8mm Body, 48 Lead, 0.5mm Pitch, No Pullback; RoHS: Y; PinCount: 48; Code_JEDEC: MO-220-WKKD-2; ComponentLink1Description: DS50EV401 Datasheet; ComponentLink1URL: http://www.national.com/ds/DS/DS50EV401.pdf; ComponentLink2Description: DS50EV401 Web Page; ComponentLink2URL: http://www.national.com/pf/DS/DS50EV401.html; ComponentLink3Description: SQA48A Package Page; ComponentLink3URL: http://www.national.com/packaging/folders/sqa48a.html
footprint SQA48A (QFN, 48-Leads, Body 7x7mm, Pitch 0.5mm, NSC Recommended)
pins: 1 IN_0+ (in), 2 IN_0- (in), 3 VDD (power), 4 IN_1+ (in), 5 IN_1- (in), 6 VDD (power), 7 VDD (power), 8 IN_2+ (in), 9 IN_2- (in), 10 VDD (power), 11 IN_3+ (in), 12 IN_3- (in), 13 VDD (power), 14 MODE (in), 15 VDD (power), 16 Reserv, 17 Reserv, 18 Reserv, 19 Reserv, 20 Reserv, 21 Reserv, 22 GND (power), 23 Reserv, 24 GND (power), 25 OUT_3- (out), 26 OUT_3+ (out), 27 GND (power), 28 OUT_2- (out), 29 OUT_2+ (out), 30 GND (power), 31 GND (power), 32 OUT_1- (out), 33 OUT_1+ (out), 34 GND (power), 35 OUT_0- (out), 36 OUT_0+ (out), 37 Reserv, 38 EN3 (in), 39 SD3 (out), 40 EN2 (in), 41 SD2 (out), 42 EN1 (in), 43 SD1 (out), 44 EN0 (in), 45 SD0 (out), 46 VDD (power), 47 Reserv, 48 Reserv, 49 GND (power)

## DS50EV401SQ/NOPB
designator U?
2.5 Gbps / 5.0 Gbps or 8.0 Gbps Quad PCI Express Cable and Backplane Equalizer, 48-pin LLP, Pb-Free; PartNumber: DS50EV401SQ/NOPB; Manufacturer: National Semiconductor; PackageTopMarking: NS*UZXYTTE#*DS50EV401; PowerWise: N; CompType: Interface IC; Published: 1-Mar-2010; DatasheetVersion: Jul-2008; PackageVersion: revB, May-2009; PackageReference: SQA48A; Publisher: Altium Limited; PackageDescription: LLP, Plastic, Quad, 7 x 7 x 0.8mm Body, 48 Lead, 0.5mm Pitch, No Pullback; Supplier 1: Digi-Key; Supplier Part Number 1: DS50EV401SQ-ND; RoHS: Y; PinCount: 48; Code_JEDEC: MO-220-WKKD-2; ComponentLink1Description: DS50EV401 Datasheet; ComponentLink1URL: http://www.national.com/ds/DS/DS50EV401.pdf; ComponentLink2Description: DS50EV401 Web Page; ComponentLink2URL: http://www.national.com/pf/DS/DS50EV401.html; ComponentLink3Description: SQA48A Package Page; ComponentLink3URL: http://www.national.com/packaging/folders/sqa48a.html
footprint SQA48A (QFN, 48-Leads, Body 7x7mm, Pitch 0.5mm, NSC Recommended)
pins: 1 IN_0+ (in), 2 IN_0- (in), 3 VDD (power), 4 IN_1+ (in), 5 IN_1- (in), 6 VDD (power), 7 VDD (power), 8 IN_2+ (in), 9 IN_2- (in), 10 VDD (power), 11 IN_3+ (in), 12 IN_3- (in), 13 VDD (power), 14 MODE (in), 15 VDD (power), 16 Reserv, 17 Reserv, 18 Reserv, 19 Reserv, 20 Reserv, 21 Reserv, 22 GND (power), 23 Reserv, 24 GND (power), 25 OUT_3- (out), 26 OUT_3+ (out), 27 GND (power), 28 OUT_2- (out), 29 OUT_2+ (out), 30 GND (power), 31 GND (power), 32 OUT_1- (out), 33 OUT_1+ (out), 34 GND (power), 35 OUT_0- (out), 36 OUT_0+ (out), 37 Reserv, 38 EN3 (in), 39 SD3 (out), 40 EN2 (in), 41 SD2 (out), 42 EN1 (in), 43 SD1 (out), 44 EN0 (in), 45 SD0 (out), 46 VDD (power), 47 Reserv, 48 Reserv, 49 GND (power)

## DS50EV401SQE/NOPB
designator U?
2.5 Gbps / 5.0 Gbps or 8.0 Gbps Quad PCI Express Cable and Backplane Equalizer, 48-pin LLP, Pb-Free; PartNumber: DS50EV401SQE/NOPB; Manufacturer: National Semiconductor; PackageTopMarking: NS*UZXYTTE#*DS50EV401; PowerWise: N; CompType: Interface IC; Published: 1-Mar-2010; DatasheetVersion: Jul-2008; PackageVersion: revB, May-2009; PackageReference: SQA48A; Publisher: Altium Limited; PackageDescription: LLP, Plastic, Quad, 7 x 7 x 0.8mm Body, 48 Lead, 0.5mm Pitch, No Pullback; Supplier 1: Digi-Key; Supplier Part Number 1: DS50EV401SQE/NOPBTR-ND; Supplier 2: Digi-Key; Supplier Part Number 2: DS50EV401SQE/NOPBCT-ND; Supplier 3: Digi-Key; Supplier Part Number 3: DS50EV401SQE/NOPBDKR-ND; RoHS: Y; PinCount: 48; Code_JEDEC: MO-220-WKKD-2; ComponentLink1Description: DS50EV401 Datasheet; ComponentLink1URL: http://www.national.com/ds/DS/DS50EV401.pdf; ComponentLink2Description: DS50EV401 Web Page; ComponentLink2URL: http://www.national.com/pf/DS/DS50EV401.html; ComponentLink3Description: SQA48A Package Page; ComponentLink3URL: http://www.national.com/packaging/folders/sqa48a.html
footprint SQA48A (QFN, 48-Leads, Body 7x7mm, Pitch 0.5mm, NSC Recommended)
pins: 1 IN_0+ (in), 2 IN_0- (in), 3 VDD (power), 4 IN_1+ (in), 5 IN_1- (in), 6 VDD (power), 7 VDD (power), 8 IN_2+ (in), 9 IN_2- (in), 10 VDD (power), 11 IN_3+ (in), 12 IN_3- (in), 13 VDD (power), 14 MODE (in), 15 VDD (power), 16 Reserv, 17 Reserv, 18 Reserv, 19 Reserv, 20 Reserv, 21 Reserv, 22 GND (power), 23 Reserv, 24 GND (power), 25 OUT_3- (out), 26 OUT_3+ (out), 27 GND (power), 28 OUT_2- (out), 29 OUT_2+ (out), 30 GND (power), 31 GND (power), 32 OUT_1- (out), 33 OUT_1+ (out), 34 GND (power), 35 OUT_0- (out), 36 OUT_0+ (out), 37 Reserv, 38 EN3 (in), 39 SD3 (out), 40 EN2 (in), 41 SD2 (out), 42 EN1 (in), 43 SD1 (out), 44 EN0 (in), 45 SD0 (out), 46 VDD (power), 47 Reserv, 48 Reserv, 49 GND (power)

## DS50EV401SQX/NOPB
designator U?
2.5 Gbps / 5.0 Gbps or 8.0 Gbps Quad PCI Express Cable and Backplane Equalizer, 48-pin LLP, Pb-Free; PartNumber: DS50EV401SQX/NOPB; Manufacturer: National Semiconductor; PackageTopMarking: NS*UZXYTTE#*DS50EV401; PowerWise: N; CompType: Interface IC; Published: 1-Mar-2010; DatasheetVersion: Jul-2008; PackageVersion: revB, May-2009; PackageReference: SQA48A; Publisher: Altium Limited; PackageDescription: LLP, Plastic, Quad, 7 x 7 x 0.8mm Body, 48 Lead, 0.5mm Pitch, No Pullback; Supplier 1: Digi-Key; Supplier Part Number 1: DS50EV401SQX-ND; RoHS: Y; PinCount: 48; Code_JEDEC: MO-220-WKKD-2; ComponentLink1Description: DS50EV401 Datasheet; ComponentLink1URL: http://www.national.com/ds/DS/DS50EV401.pdf; ComponentLink2Description: DS50EV401 Web Page; ComponentLink2URL: http://www.national.com/pf/DS/DS50EV401.html; ComponentLink3Description: SQA48A Package Page; ComponentLink3URL: http://www.national.com/packaging/folders/sqa48a.html
footprint SQA48A (QFN, 48-Leads, Body 7x7mm, Pitch 0.5mm, NSC Recommended)
pins: 1 IN_0+ (in), 2 IN_0- (in), 3 VDD (power), 4 IN_1+ (in), 5 IN_1- (in), 6 VDD (power), 7 VDD (power), 8 IN_2+ (in), 9 IN_2- (in), 10 VDD (power), 11 IN_3+ (in), 12 IN_3- (in), 13 VDD (power), 14 MODE (in), 15 VDD (power), 16 Reserv, 17 Reserv, 18 Reserv, 19 Reserv, 20 Reserv, 21 Reserv, 22 GND (power), 23 Reserv, 24 GND (power), 25 OUT_3- (out), 26 OUT_3+ (out), 27 GND (power), 28 OUT_2- (out), 29 OUT_2+ (out), 30 GND (power), 31 GND (power), 32 OUT_1- (out), 33 OUT_1+ (out), 34 GND (power), 35 OUT_0- (out), 36 OUT_0+ (out), 37 Reserv, 38 EN3 (in), 39 SD3 (out), 40 EN2 (in), 41 SD2 (out), 42 EN1 (in), 43 SD1 (out), 44 EN0 (in), 45 SD0 (out), 46 VDD (power), 47 Reserv, 48 Reserv, 49 GND (power)

## DS50PCI401SQ/NOPB
designator U?
2.5 Gbps / 5.0 Gbps 4 Lane PCI Express Transceiver with Equalization and De-Emphasis, 54-pin LLP, Pb-Free; PartNumber: DS50PCI401SQ/NOPB; Manufacturer: National Semiconductor; PackageTopMarking: NS*UZXYTTE#*DS50PCI401SQ; PowerWise: N; CompType: Interface IC; Published: 1-Mar-2010; LatestRevisionNote: RSNT pin is now active low.; DatasheetVersion: Feb-2010; PackageVersion: revB, Jun-2009; PackageReference: SQA54A; Publisher: Altium Limited; PackageDescription: LLP, Plastic, Quad, 10 x 10 x 0.8 mm Body, 54 Lead, 0.5 mm Pitch (SQA54A); Supplier 1: Digi-Key; Supplier Part Number 1: DS50PCI401SQ-ND; RoHS: Y; PinCount: 54; ComponentLink1Description: DS50PCI401 Datasheet; ComponentLink1URL: http://www.national.com/ds/DS/DS50PCI401.pdf; ComponentLink2Description: DS50PCI401 Web Page; ComponentLink2URL: http://www.national.com/pf/DS/DS50PCI401.html; ComponentLink3Description: SQA54A Package Page; ComponentLink3URL: http://www.national.com/packaging/folders/sqa54a.html
footprint SQA54A (PQFN, 54-Leads, (18x9 pads), Body 10x10mm, Pitch 0.5mm, NSC Recommended)
pins: 1 OB_0+ (out), 2 OB_0- (out), 3 OB_1+ (out), 4 OB_1- (out), 5 OB_2+ (out), 6 OB_2- (out), 7 OB_3+ (out), 8 OB_3- (out), 9 VDD (power), 10 IA_0+ (in), 11 IA_0- (in), 12 IA_1+ (in), 13 IA_1- (in), 14 VDD (power), 15 IA_2+ (in), 16 IA_2- (in), 17 IA_3+ (in), 18 IA_3- (in), 19 EQA1 (in), 20 EQA0 (in), 21 RATE (in), 22 RXDETA (in), 23 RXDETB (in), 24 TXIDLEA (in), 25 TXIDLEB (in), 26 ENRXDET (in), 27 SD_TH (in), 28 OA_3- (out), 29 OA_3+ (out), 30 OA_2- (out), 31 OA_2+ (out), 32 OA_1- (out), 33 OA_1+ (out), 34 OA_0- (out), 35 OA_0+ (out), 36 VDD (power), 37 IB_3- (in), 38 IB_3+ (in), 39 IB_2- (in), 40 IB_2+ (in), 41 VDD (power), 42 IB_1- (in), 43 IB_1+ (in), 44 IB_0- (in), 45 IB_0+ (in), 46 EQB0/AD3 (in), 47 EQB1/AD2 (in), 48 ENSMB (in), 49 DEMA0/SDA (io), 50 DEMA1/SCL (in), 51 VDD (power), 52 PRSNT (in), 53 DEMB0/AD1 (in), 54 DEMB1/AD0 (in), 55 DAP (power)

## DS50PCI401SQE/NOPB
designator U?
2.5 Gbps / 5.0 Gbps 4 Lane PCI Express Transceiver with Equalization and De-Emphasis, 54-pin LLP, Pb-Free; PartNumber: DS50PCI401SQE/NOPB; Manufacturer: National Semiconductor; PackageTopMarking: NS*UZXYTTE#*DS50PCI401SQ; PowerWise: N; CompType: Interface IC; Published: 1-Mar-2010; LatestRevisionNote: RSNT pin is now active low.; DatasheetVersion: Feb-2010; PackageVersion: revB, Jun-2009; PackageReference: SQA54A; Publisher: Altium Limited; PackageDescription: LLP, Plastic, Quad, 10 x 10 x 0.8 mm Body, 54 Lead, 0.5 mm Pitch (SQA54A); Supplier 1: Digi-Key; Supplier Part Number 1: DS50PCI401SQETR-ND; Supplier 2: Digi-Key; Supplier Part Number 2: DS50PCI401SQECT-ND; Supplier 3: Digi-Key; Supplier Part Number 3: DS50PCI401SQEDKR-ND; RoHS: Y; PinCount: 54; ComponentLink1Description: DS50PCI401 Datasheet; ComponentLink1URL: http://www.national.com/ds/DS/DS50PCI401.pdf; ComponentLink2Description: DS50PCI401 Web Page; ComponentLink2URL: http://www.national.com/pf/DS/DS50PCI401.html; ComponentLink3Description: SQA54A Package Page; ComponentLink3URL: http://www.national.com/packaging/folders/sqa54a.html
footprint SQA54A (PQFN, 54-Leads, (18x9 pads), Body 10x10mm, Pitch 0.5mm, NSC Recommended)
pins: 1 OB_0+ (out), 2 OB_0- (out), 3 OB_1+ (out), 4 OB_1- (out), 5 OB_2+ (out), 6 OB_2- (out), 7 OB_3+ (out), 8 OB_3- (out), 9 VDD (power), 10 IA_0+ (in), 11 IA_0- (in), 12 IA_1+ (in), 13 IA_1- (in), 14 VDD (power), 15 IA_2+ (in), 16 IA_2- (in), 17 IA_3+ (in), 18 IA_3- (in), 19 EQA1 (in), 20 EQA0 (in), 21 RATE (in), 22 RXDETA (in), 23 RXDETB (in), 24 TXIDLEA (in), 25 TXIDLEB (in), 26 ENRXDET (in), 27 SD_TH (in), 28 OA_3- (out), 29 OA_3+ (out), 30 OA_2- (out), 31 OA_2+ (out), 32 OA_1- (out), 33 OA_1+ (out), 34 OA_0- (out), 35 OA_0+ (out), 36 VDD (power), 37 IB_3- (in), 38 IB_3+ (in), 39 IB_2- (in), 40 IB_2+ (in), 41 VDD (power), 42 IB_1- (in), 43 IB_1+ (in), 44 IB_0- (in), 45 IB_0+ (in), 46 EQB0/AD3 (in), 47 EQB1/AD2 (in), 48 ENSMB (in), 49 DEMA0/SDA (io), 50 DEMA1/SCL (in), 51 VDD (power), 52 PRSNT (in), 53 DEMB0/AD1 (in), 54 DEMB1/AD0 (in), 55 DAP (power)

## DS50PCI402SQ/NOPB
designator U?
2.5 Gbps / 5.0 Gbps 4 Lane PCI Express Repeater with Equalization and De-Emphasis, 54 pin LLP; PartNumber: DS50PCI402SQ/NOPB; Manufacturer: National Semiconductor; PackageTopMarking: NS*UZXYTTE#*DS50PCI402SQ; PowerWise: Y; CompType: Interface IC; Published: 16-Nov-2010; DatasheetVersion: Jul-2010; PackageVersion: revB, Jun-2009; PackageReference: SQA54A; Publisher: Altium Limited; PackageDescription: LLP, Plastic, Quad, 10 x 10 x 0.8 mm Body, 54 Lead, 0.5 mm Pitch (SQA54A); Supplier 1: Digi-Key; Supplier Part Number 1: DS50PCI402SQ/NOPB-ND; RoHS: Y; PinCount: 54; ComponentLink1Description: DS50PCI402 Datasheet; ComponentLink1URL: http://www.national.com/ds/DS/DS50PCI402.pdf; ComponentLink2Description: DS50PCI402 Web Page; ComponentLink2URL: http://www.national.com/pf/DS/DS50PCI402.html; ComponentLink3Description: SQA54A Package Page; ComponentLink3URL: http://www.national.com/packaging/folders/sqa54a.html
footprint SQA54A (PQFN, 54-Leads, (18x9 pads), Body 10x10mm, Pitch 0.5mm, NSC Recommended)
pins: 1 OB_0+ (out), 2 OB_0- (out), 3 OB_1+ (out), 4 OB_1- (out), 5 OB_2+ (out), 6 OB_2- (out), 7 OB_3+ (out), 8 OB_3- (out), 9 VDD (power), 10 IA_0+ (in), 11 IA_0- (in), 12 IA_1+ (in), 13 IA_1- (in), 14 VDD (power), 15 IA_2+ (in), 16 IA_2- (in), 17 IA_3+ (in), 18 IA_3- (in), 19 EQA1 (in), 20 EQA0 (in), 21 RATE (in), 22 RXDETA (in), 23 RXDETB (in), 24 TXIDLEA (in), 25 TXIDLEB (in), 26 ENRXDET (in), 27 SD_TH (in), 28 OA_3- (out), 29 OA_3+ (out), 30 OA_2- (out), 31 OA_2+ (out), 32 OA_1- (out), 33 OA_1+ (out), 34 OA_0- (out), 35 OA_0+ (out), 36 VDD (power), 37 IB_3- (in), 38 IB_3+ (in), 39 IB_2- (in), 40 IB_2+ (in), 41 VDD (power), 42 IB_1- (in), 43 IB_1+ (in), 44 IB_0- (in), 45 IB_0+ (in), 46 EQB0/AD3 (in), 47 EQB1/AD2 (in), 48 ENSMB (in), 49 DEMA0/SDA (io), 50 DEMA1/SCL (in), 51 VDD (power), 52 ~{PRSNT} (in), 53 DEMB0/AD1 (in), 54 DEMB1/AD0 (in), 55 DAP (power)

## DS50PCI402SQE/NOPB
designator U?
2.5 Gbps / 5.0 Gbps 4 Lane PCI Express Repeater with Equalization and De-Emphasis, 54 pin LLP; PartNumber: DS50PCI402SQE/NOPB; Manufacturer: National Semiconductor; PackageTopMarking: NS*UZXYTTE#*DS50PCI402SQ; PowerWise: Y; CompType: Interface IC; Published: 16-Nov-2010; DatasheetVersion: Jul-2010; PackageVersion: revB, Jun-2009; PackageReference: SQA54A; Publisher: Altium Limited; PackageDescription: LLP, Plastic, Quad, 10 x 10 x 0.8 mm Body, 54 Lead, 0.5 mm Pitch (SQA54A); Supplier 1: Digi-Key; Supplier Part Number 1: DS50PCI402SQETR-ND; Supplier 2: Digi-Key; Supplier Part Number 2: DS50PCI402SQECT-ND; Supplier 3: Digi-Key; Supplier Part Number 3: DS50PCI402SQEDKR-ND; RoHS: Y; PinCount: 54; ComponentLink1Description: DS50PCI402 Datasheet; ComponentLink1URL: http://www.national.com/ds/DS/DS50PCI402.pdf; ComponentLink2Description: DS50PCI402 Web Page; ComponentLink2URL: http://www.national.com/pf/DS/DS50PCI402.html; ComponentLink3Description: SQA54A Package Page; ComponentLink3URL: http://www.national.com/packaging/folders/sqa54a.html
footprint SQA54A (PQFN, 54-Leads, (18x9 pads), Body 10x10mm, Pitch 0.5mm, NSC Recommended)
pins: 1 OB_0+ (out), 2 OB_0- (out), 3 OB_1+ (out), 4 OB_1- (out), 5 OB_2+ (out), 6 OB_2- (out), 7 OB_3+ (out), 8 OB_3- (out), 9 VDD (power), 10 IA_0+ (in), 11 IA_0- (in), 12 IA_1+ (in), 13 IA_1- (in), 14 VDD (power), 15 IA_2+ (in), 16 IA_2- (in), 17 IA_3+ (in), 18 IA_3- (in), 19 EQA1 (in), 20 EQA0 (in), 21 RATE (in), 22 RXDETA (in), 23 RXDETB (in), 24 TXIDLEA (in), 25 TXIDLEB (in), 26 ENRXDET (in), 27 SD_TH (in), 28 OA_3- (out), 29 OA_3+ (out), 30 OA_2- (out), 31 OA_2+ (out), 32 OA_1- (out), 33 OA_1+ (out), 34 OA_0- (out), 35 OA_0+ (out), 36 VDD (power), 37 IB_3- (in), 38 IB_3+ (in), 39 IB_2- (in), 40 IB_2+ (in), 41 VDD (power), 42 IB_1- (in), 43 IB_1+ (in), 44 IB_0- (in), 45 IB_0+ (in), 46 EQB0/AD3 (in), 47 EQB1/AD2 (in), 48 ENSMB (in), 49 DEMA0/SDA (io), 50 DEMA1/SCL (in), 51 VDD (power), 52 ~{PRSNT} (in), 53 DEMB0/AD1 (in), 54 DEMB1/AD0 (in), 55 DAP (power)

## DS64BR401SQ/NOPB
designator U?
Quad Bi-Directional Transceiver with Equalization and De-Emphasis, 54-pin LLP, Pb-Free; PartNumber: DS64BR401SQ/NOPB; Manufacturer: National Semiconductor; PackageTopMarking: NS*UZXYTTE#*DS64BR401*SQ; PowerWise: N; CompType: Interface IC; Published: 1-Mar-2010; LatestRevisionNote: RSNT pin is now active low.; DatasheetVersion: Oct-2009; PackageVersion: revB, Jun-2009; PackageReference: SQA54A; Publisher: Altium Limited; PackageDescription: LLP, Plastic, Quad, 10 x 10 x 0.8 mm Body, 54 Lead, 0.5 mm Pitch (SQA54A); Supplier 1: Digi-Key; Supplier Part Number 1: DS64BR401SQ-ND; RoHS: Y; PinCount: 54; ComponentLink1Description: DS64BR401 Datasheet; ComponentLink1URL: http://www.national.com/ds/DS/DS64BR401.pdf; ComponentLink2Description: DS64BR401 Web Page; ComponentLink2URL: http://www.national.com/pf/DS/DS64BR401.html; ComponentLink3Description: SQA54A Package Page; ComponentLink3URL: http://www.national.com/packaging/folders/sqa54a.html
footprint SQA54A (PQFN, 54-Leads, (18x9 pads), Body 10x10mm, Pitch 0.5mm, NSC Recommended)
pins: 1 OB_0+ (out), 2 OB_0- (out), 3 OB_1+ (out), 4 OB_1- (out), 5 OB_2+ (out), 6 OB_2- (out), 7 OB_3+ (out), 8 OB_3- (out), 9 VDD (power), 10 IA_0+ (in), 11 IA_0- (in), 12 IA_1+ (in), 13 IA_1- (in), 14 VDD (power), 15 IA_2+ (in), 16 IA_2- (in), 17 IA_3+ (in), 18 IA_3- (in), 19 EQA1 (in), 20 EQA0 (in), 21 RATE (in), 22 VOD0, 23 VOD1, 24 TXIDLEA (in), 25 TXIDLEB (in), 26 NC, 27 SD_TH (in), 28 OA_3- (out), 29 OA_3+ (out), 30 OA_2- (out), 31 OA_2+ (out), 32 OA_1- (out), 33 OA_1+ (out), 34 OA_0- (out), 35 OA_0+ (out), 36 VDD (power), 37 IB_3- (in), 38 IB_3+ (in), 39 IB_2- (in), 40 IB_2+ (in), 41 VDD (power), 42 IB_1- (in), 43 IB_1+ (in), 44 IB_0- (in), 45 IB_0+ (in), 46 EQB0/AD3 (in), 47 EQB1/AD2 (in), 48 ENSMB (in), 49 DEMA0/SDA (io), 50 DEMA1/SCL (in), 51 VDD (power), 52 PWDN (in), 53 DEMB0/AD1 (in), 54 DEMB1/AD0 (in), 55 DAP (power)

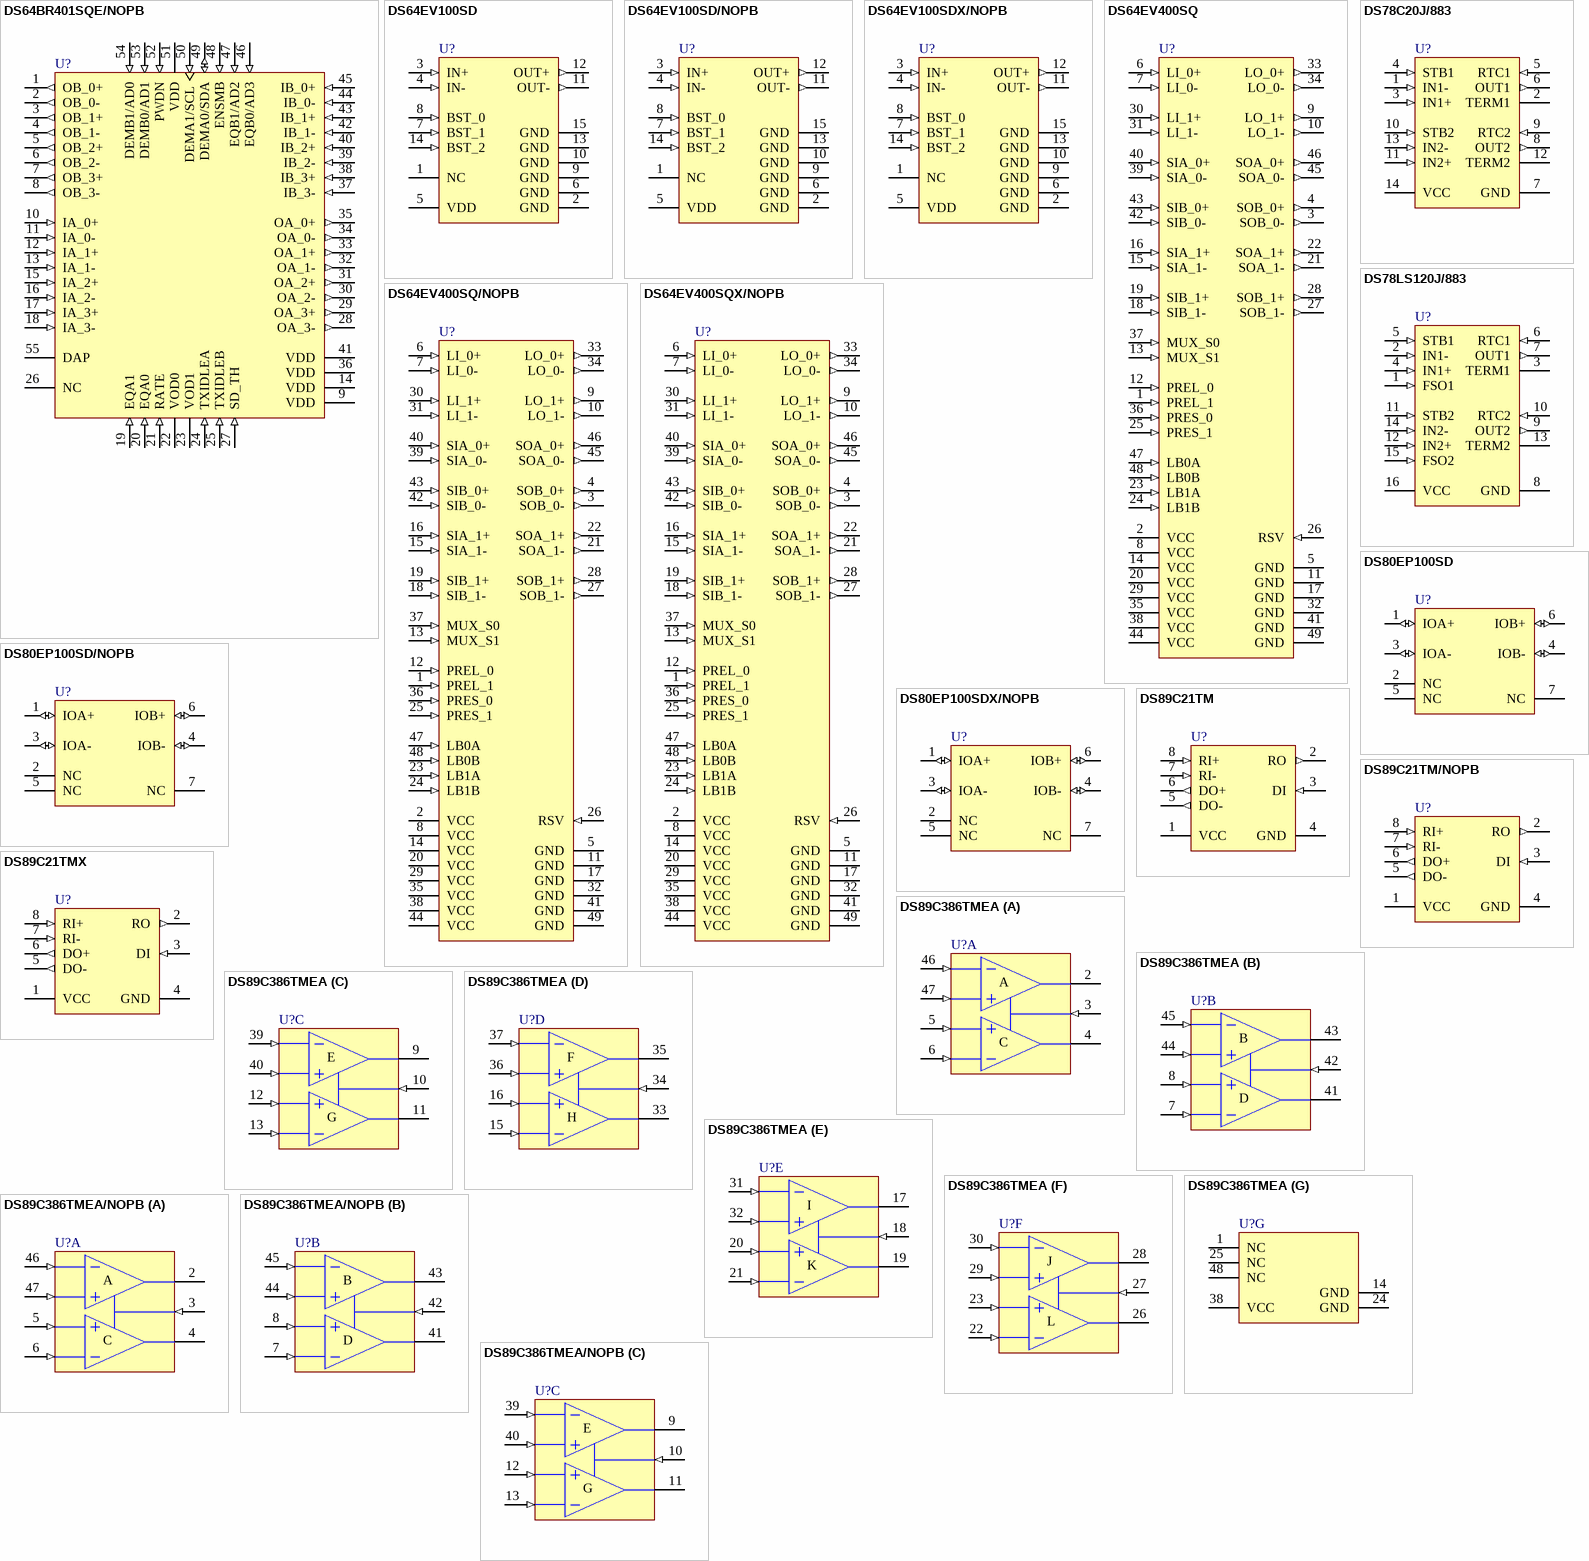
[diagram p25: symbols DS64BR401SQE/NOPB to DS89C386TMEA/NOPB]

## DS64BR401SQE/NOPB
designator U?
Quad Bi-Directional Transceiver with Equalization and De-Emphasis, 54-pin LLP, Pb-Free; PartNumber: DS64BR401SQE/NOPB; Manufacturer: National Semiconductor; PackageTopMarking: NS*UZXYTTE#*DS64BR401*SQ; PowerWise: N; CompType: Interface IC; Published: 1-Mar-2010; LatestRevisionNote: RSNT pin is now active low.; DatasheetVersion: Oct-2009; PackageVersion: revB, Jun-2009; PackageReference: SQA54A; Publisher: Altium Limited; PackageDescription: LLP, Plastic, Quad, 10 x 10 x 0.8 mm Body, 54 Lead, 0.5 mm Pitch (SQA54A); Supplier 1: Digi-Key; Supplier Part Number 1: DS64BR401SQETR-ND; Supplier 2: Digi-Key; Supplier Part Number 2: DS64BR401SQECT-ND; Supplier 3: Digi-Key; Supplier Part Number 3: DS64BR401SQEDKR-ND; Supplier 4: Farnell; Supplier Part Number 4: 1769562; RoHS: Y; PinCount: 54; ComponentLink1Description: DS64BR401 Datasheet; ComponentLink1URL: http://www.national.com/ds/DS/DS64BR401.pdf; ComponentLink2Description: DS64BR401 Web Page; ComponentLink2URL: http://www.national.com/pf/DS/DS64BR401.html; ComponentLink3Description: SQA54A Package Page; ComponentLink3URL: http://www.national.com/packaging/folders/sqa54a.html
footprint SQA54A (PQFN, 54-Leads, (18x9 pads), Body 10x10mm, Pitch 0.5mm, NSC Recommended)
pins: 1 OB_0+ (out), 2 OB_0- (out), 3 OB_1+ (out), 4 OB_1- (out), 5 OB_2+ (out), 6 OB_2- (out), 7 OB_3+ (out), 8 OB_3- (out), 9 VDD (power), 10 IA_0+ (in), 11 IA_0- (in), 12 IA_1+ (in), 13 IA_1- (in), 14 VDD (power), 15 IA_2+ (in), 16 IA_2- (in), 17 IA_3+ (in), 18 IA_3- (in), 19 EQA1 (in), 20 EQA0 (in), 21 RATE (in), 22 VOD0, 23 VOD1, 24 TXIDLEA (in), 25 TXIDLEB (in), 26 NC, 27 SD_TH (in), 28 OA_3- (out), 29 OA_3+ (out), 30 OA_2- (out), 31 OA_2+ (out), 32 OA_1- (out), 33 OA_1+ (out), 34 OA_0- (out), 35 OA_0+ (out), 36 VDD (power), 37 IB_3- (in), 38 IB_3+ (in), 39 IB_2- (in), 40 IB_2+ (in), 41 VDD (power), 42 IB_1- (in), 43 IB_1+ (in), 44 IB_0- (in), 45 IB_0+ (in), 46 EQB0/AD3 (in), 47 EQB1/AD2 (in), 48 ENSMB (in), 49 DEMA0/SDA (io), 50 DEMA1/SCL (in), 51 VDD (power), 52 PWDN (in), 53 DEMB0/AD1 (in), 54 DEMB1/AD0 (in), 55 DAP (power)

## DS64EV100SD
designator U?
Programmable Single Equalizer, 14-pin LLP; PartNumber: DS64EV100SD; Manufacturer: National Semiconductor; PackageTopMarking: ZXYTT*D64E1SD; PowerWise: Y; CompType: Interface IC; Published: 4-Dec-2008; DatasheetVersion: Apr-2008; PackageVersion: revA, Jun-2003; PackageReference: SDA14A; Publisher: Altium Limited; PackageDescription: LLP, Plastic, Dual, 4 x 3 x 0.8mm Body, 14 Lead, 0.5mm Pitch, No Pullback; RoHS: Y; PinCount: 14; ComponentLink1Description: DS64EV100 Datasheet; ComponentLink1URL: http://www.national.com/ds/DS/DS64EV100.pdf; ComponentLink2Description: DS64EV100 Web Page; ComponentLink2URL: http://www.national.com/pf/DS/DS64EV100.html; ComponentLink3Description: SDA14A Package Page; ComponentLink3URL: http://www.national.com/packaging/folders/sda14a.html
footprint SDA14A (SON, 14-Leads, Body 4x3mm, Pitch 0.5mm, NSC Recommended)
pins: 1 NC, 2 GND (power), 3 IN+ (in), 4 IN- (in), 5 VDD (power), 6 GND (power), 7 BST_1 (in), 8 BST_0 (in), 9 GND (power), 10 GND (power), 11 OUT- (out), 12 OUT+ (out), 13 GND (power), 14 BST_2 (in), 15 GND (power)

## DS64EV100SD/NOPB
designator U?
Programmable Single Equalizer, 14-pin LLP, Pb-Free; PartNumber: DS64EV100SD/NOPB; Manufacturer: National Semiconductor; PowerWise: Y; CompType: Interface IC; Published: 1-Mar-2010; DatasheetVersion: Apr-2008; PackageVersion: revA, Jun-2003; PackageReference: SDA14A; Publisher: Altium Limited; PackageDescription: LLP, Plastic, Dual, 4 x 3 x 0.8mm Body, 14 Lead, 0.5mm Pitch, No Pullback; Supplier 1: Digi-Key; Supplier Part Number 1: DS64EV100SDTR-ND; Supplier 2: Digi-Key; Supplier Part Number 2: DS64EV100SDCT-ND; Supplier 3: Digi-Key; Supplier Part Number 3: DS64EV100SDDKR-ND; RoHS: Y; PinCount: 14; ComponentLink1Description: DS64EV100 Datasheet; ComponentLink1URL: http://www.national.com/ds/DS/DS64EV100.pdf; ComponentLink2Description: DS64EV100 Web Page; ComponentLink2URL: http://www.national.com/pf/DS/DS64EV100.html; ComponentLink3Description: SDA14A Package Page; ComponentLink3URL: http://www.national.com/packaging/folders/sda14a.html
footprint SDA14A (SON, 14-Leads, Body 4x3mm, Pitch 0.5mm, NSC Recommended)
pins: 1 NC, 2 GND (power), 3 IN+ (in), 4 IN- (in), 5 VDD (power), 6 GND (power), 7 BST_1 (in), 8 BST_0 (in), 9 GND (power), 10 GND (power), 11 OUT- (out), 12 OUT+ (out), 13 GND (power), 14 BST_2 (in), 15 GND (power)

## DS64EV100SDX/NOPB
designator U?
Programmable Single Equalizer, 14-pin LLP, Pb-Free; PartNumber: DS64EV100SDX/NOPB; Manufacturer: National Semiconductor; PowerWise: Y; CompType: Interface IC; Published: 1-Mar-2010; DatasheetVersion: Apr-2008; PackageVersion: revA, Jun-2003; PackageReference: SDA14A; Publisher: Altium Limited; PackageDescription: LLP, Plastic, Dual, 4 x 3 x 0.8mm Body, 14 Lead, 0.5mm Pitch, No Pullback; Supplier 1: Digi-Key; Supplier Part Number 1: DS64EV100SDX-ND; RoHS: Y; PinCount: 14; ComponentLink1Description: DS64EV100 Datasheet; ComponentLink1URL: http://www.national.com/ds/DS/DS64EV100.pdf; ComponentLink2Description: DS64EV100 Web Page; ComponentLink2URL: http://www.national.com/pf/DS/DS64EV100.html; ComponentLink3Description: SDA14A Package Page; ComponentLink3URL: http://www.national.com/packaging/folders/sda14a.html
footprint SDA14A (SON, 14-Leads, Body 4x3mm, Pitch 0.5mm, NSC Recommended)
pins: 1 NC, 2 GND (power), 3 IN+ (in), 4 IN- (in), 5 VDD (power), 6 GND (power), 7 BST_1 (in), 8 BST_0 (in), 9 GND (power), 10 GND (power), 11 OUT- (out), 12 OUT+ (out), 13 GND (power), 14 BST_2 (in), 15 GND (power)